# Altium schematic symbol library eth_bridge_v2.SCHLIB: 17 symbols
Pins are listed as number, name and electrical type; pins without a type are passive.

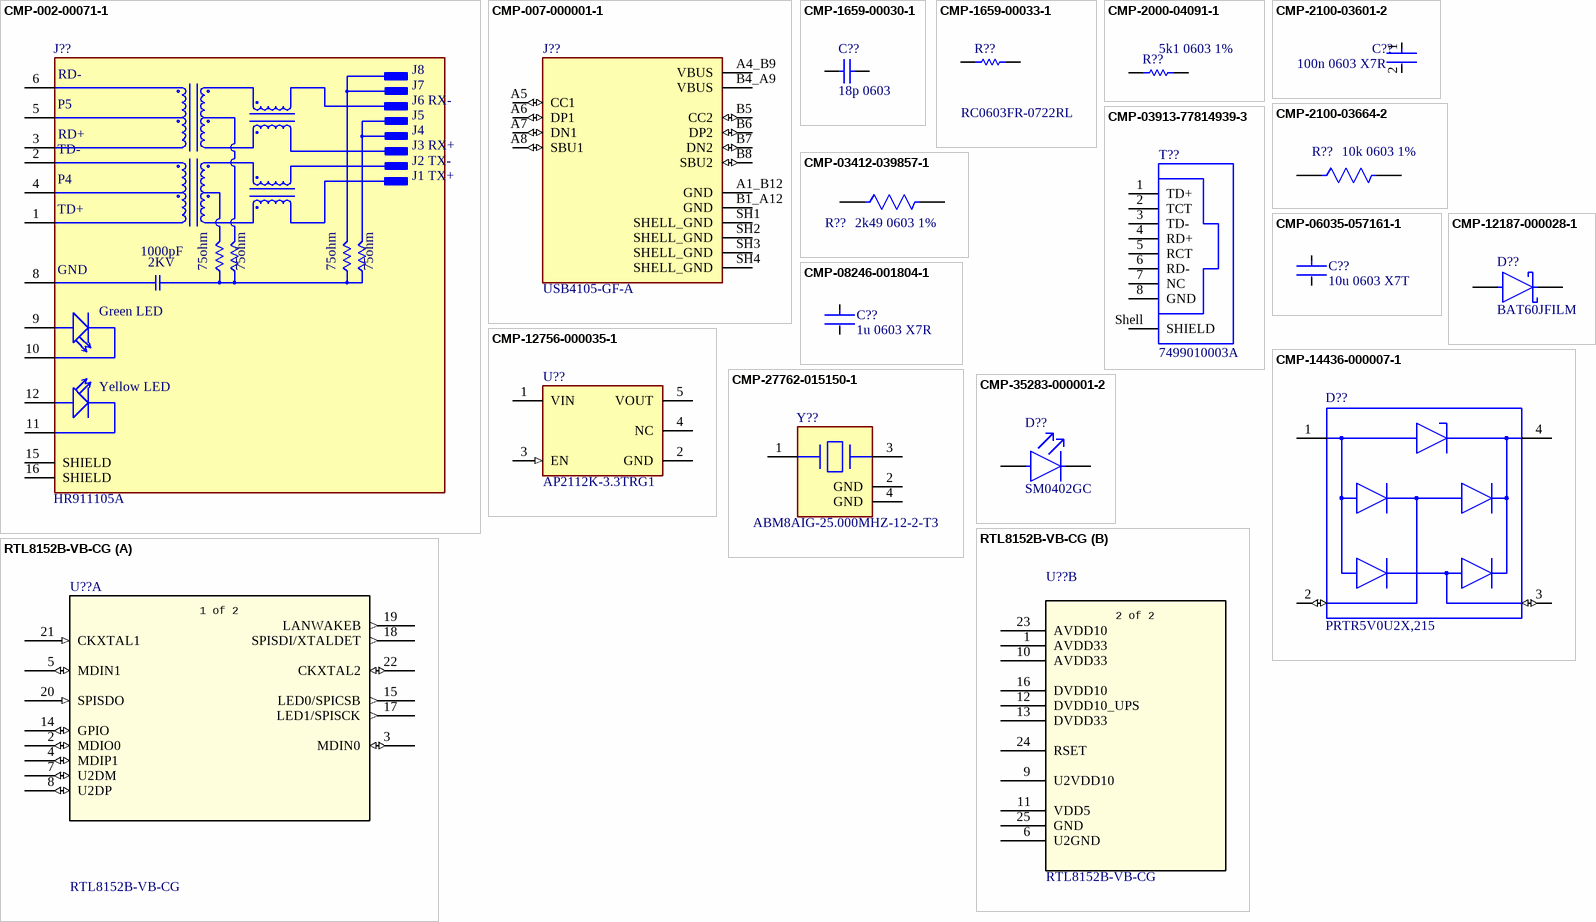
[diagram p0: symbols CMP-002-00071-1 to RTL8152B-VB-CG]

## CMP-002-00071-1
designator J??, comment HR911105A
DIP RJ45 Connector;; MF: hanrun; SnapEDA_Link: https://www.snapeda.com/parts/HR911105A/HanRun/view-part/?ref=snap; Case/Package: None; Component Type: Standard; Value: *; Source: HR911105A.SchLib; Pins: 13; MP: HR911105A; Availability: Not in stock; Price: None; Check_prices: https://www.snapeda.com/parts/HR911105A/HanRun/view-part/?ref=eda; Design Item ID: HR911105A; Component Type: Connectors
footprint HANRUN_HR911105A
footprint HANRUN_HR911105A
pins: 1 TD+, 2 TD-, 3 RD+, 4 P4, 5 P5, 6 RD-, 8 GND (power), 9 GA, 10 GC, 11 YC, 12 YA, 15 SHIELD, 16 SHIELD
text: J8; J7; J6 RX-; J5; J4; J3 RX+; J2 TX-; J1 TX+; 1000pF; 2KV; 75ohm; Green LED; Yellow LED

## CMP-007-000001-1
designator J??, comment USB4105-GF-A
USB-C; MF: {'manufacturer': u'GCT'}; Pin Count: 16; Availability: Unavailable; MP: USB4105-GF-A; Design Item ID: USB4105-GF-A; Value: *; Package: None; Price: None; Component Type: Standard; Source: USB4105-GF-A.SchLib; Supplier 1: Future Electronics; Supplier Part Number 1: USB4105-GF-A
footprint GCT_USB4105-GF-A
footprint GCT_USB4105-GF-A
footprint GCT_USB4105-GF-A
pins: A1_B12 GND (power), A4_B9 VBUS (power), A5 CC1 (io), A6 DP1 (io), A7 DN1 (io), A8 SBU1 (io), B1_A12 GND (power), B4_A9 VBUS (power), B5 CC2 (io), B6 DP2 (io), B7 DN2 (io), B8 SBU2 (io), SH1 SHELL_GND (power), SH2 SHELL_GND (power), SH3 SHELL_GND (power), SH4 SHELL_GND (power)

## CMP-1659-00030-1
designator C??, comment 18p 0603
Chip Capacitor, 18 pF, +/- 5%, 50 V, -55 to 125 degC, 0603 (1608 Metric), RoHS, Tape and Reel; Voltage Rating: 50 V; Case\Package: 0603; Power Rating: 100 mW; Resistance: 68.1 Ohm; Tolerance: 1%; Case Code (Metric): 1608; Max Operating Temperature: 155 degC; RoHSCompliant: true; Case Code (Imperial): 0603; ComponentLink2Description: Datasheet; Package Quantity: 200; PackageReference: 0603; ComponentLink2URL: http://www.yageo.com/NewPortal/yageodocoutput?fileName=/pdf/MLCC/UPY-GP_NP0_16V-to-50V_14.pdf; Length: 1.6 mm; DatasheetVersion: Rev. 14, 07/2016; Min Operating Temperature: -55 degC; ComponentLink1URL: http://www.yageo.com/; Width: 0.8 mm; ComponentLink1Description: Manufacturer URL; Height: 0.45 mm; Radiation Hardening: No; PackageDescription: 2-Pin Surface Mount Device, Body 1.6 x 0.8 mm; Packaging: Tape and Reel
footprint CAPC1608X90X40LL10T20 (Chip Capacitor, 2-Leads, Body 1.7x0.9mm, IPC High Density)
footprint CAPC1608X90X40NL10T20 (Chip Capacitor, 2-Leads, Body 1.7x0.9mm, IPC Medium Density)
footprint CAPC1608X90X40ML10T20 (Chip Capacitor, 2-Leads, Body 1.7x0.9mm, IPC Low Density)
pins: 1, 2

## CMP-1659-00033-1
designator R??, comment RC0603FR-0722RL
Chip Resistor, 22 Ohm, +/- 1%, 0.1 W, -55 to 155 degC, 0603 (1608 Metric), RoHS, Tape and Reel; Max Ouput Current: 8 A; Case\Package: SIP; Max Input Voltage: 1.4 V; ComponentLink2URL: http://www.yageo.com/documents/recent/PYu-RC_Group_51_RoHS_L_04.pdf; RoHSCompliant: true; Max Operating Temperature: 100 degC; PackageDescription: 2-Pin Surface Mount Device, Body 1.6 x 0.8 mm; ComponentLink1Description: Manufacturer URL; ComponentLink1URL: http://www.yageo.com/; Length: 18.5 mm; REACH SVHC: Unknown; Pins: 4; DatasheetVersion: Rev. 4, 02/2016; PackageReference: 0603; Output Current: 8 A; Min Operating Temperature: -25 degC; Height: 19.6 mm; Mount: Through Hole; Radiation Hardening: No; ComponentLink2Description: Datasheet; Package Quantity: 200; Packaging: Rail/Tube
footprint RESC1608X55X25NL10T15 (Chip Resistor, 2-Leads, Body 1.70x0.90mm, IPC Medium Density)
footprint RESC1608X55X25ML10T15 (Chip Resistor, 2-Leads, Body 1.70x0.90mm, IPC Low Density)
footprint RESC1608X55X25LL10T15 (Chip Resistor, 2-Leads, Body 1.70x0.90mm, IPC High Density)
pins: 1, 2

## CMP-2000-04091-1
designator R??, comment 5k1 0603 1%
Manufacturer: Yageo; Part Number: RC0603FR-075K1L
footprint RESC1608X55X25ML10T15 (Chip Resistor, 2-Leads, Body 1.60x0.80mm, IPC Low Density)
footprint RESC1608X55X25LL10T15 (Chip Resistor, 2-Leads, Body 1.60x0.80mm, IPC High Density)
footprint RESC1608X55X25NL10T15 (Chip Resistor, 2-Leads, Body 1.60x0.80mm, IPC Medium Density)
pins: 1, 2
1 alternate drawing of the same symbol

## CMP-2100-03601-2
designator C??, comment 100n 0603 X7R
CAP CER 0.1UF 50V X7R 0603; Manufacturer: YAGEO; Manufacturer Part Number: CC0603KRX7R9BB104; Material: Ceramic; Capacitance: 100 nF; Temperature Coefficient: 15%; Tolerance: 0.1; Value: 100 nF; Height: 0.9mm; Voltage: 50 V; ComponentLink2Description: Datasheet; Device Class L2: Capacitors; Temperature Range High: +125°C; Category: Cap; Footprint Url: http://www.yageo.com/exep/pages/download/literatures/UPY-C_GEN_24.pdf; ComponentLink2URL: http://www.yageo.com/documents/recent/UPY-GPHC_X7R_6.3V-to-50V_18.pdf; Package: CC0603-DA; Temperature: -55°C to +125°C; Voltage Rating: 50 V; Temperature Characteristic: X7R; Device Class L1: Passive Components; Temperature Range Low: -55°C; RoHS: TRUE; Automotive: No; Device Class L3: Ceramic Capacitors; Octopart: https://octopart.com/cc0603krx7r9bb104-yageo-42244635; Mouser Description: Multilayer Ceramic Capacitor, CC Series, 0.1 - F, - 10%, X7R, 50 V, 0603 [1608 Metric]; Lead Free: Yes; Digikey Description: CAP CER 0.1UF 50V X7R 0603
footprint FP-CC0603-DA-MFG
footprint FP-CC0603-DA-IPC_C
footprint FP-CC0603-DA-IPC_B
footprint FP-CC0603-DA-IPC_A
pins: 1, 2

## CMP-2100-03664-2
designator R??, comment 10k 0603 1%
RES 10K OHM 1% 1/10W 0603; Voltage Rating: 75V; Voltage Rating (DC): 50V; Resistance: 10kR; Power Rating: 100mW; Temperature Coefficient: 100ppm/°C; Depth: 0.8mm; Termination: SMD/SMT; Resistor Type: Thick Film; Series: RC; Construction: Rectangular; Features: Moisture Resistant; Packaging: Tape and Reel; Min Operating Temperature: -55°C; Number of Terminations: 2; Lead Pitch: 0.3mm; RoHS Compliant: Yes; Case/Package: 0603; Resistance Tolerance: 1%; Military Standard: Not; Weight: 7.1E-05oz; Number of Pins: 2; Tolerance: 1%; Length: 1.6mm; Case Code (Imperial): 0603; Lead Free: Lead Free; Width: 0.8mm; Max Power Dissipation: 100mW; Height: 0.45mm; Max Operating Temperature: 155°C; Case Code (Metric): 1608; Size Code: 0603
footprint FP-RC0603-0_55-IPC_C
footprint FP-RC0603-0_55-IPC_B
footprint FP-RC0603-0_55-MFG
footprint FP-RC0603-0_55-IPC_A
pins: 1, 2

## CMP-03412-039857-1
designator R??, comment 2k49 0603 1%
Anti-Sulfurated Chip Resistors Automotive Grade 2.49kΩ 1% 100ppm/°C 0603; Max Power Dissipation: 100mW; Resistance: 2.49kR; Packaging: Tape and Reel; Case/Package: 0603; Height: 0.022inch; Features: Moisture Resistant; Number of Terminations: 2; Length: 0.063inch; Tolerance: 1%; Resistor Type: Thick Film; Width: 0.031inch; Max Operating Temperature: 155°C; Temperature Coefficient: 100ppm/°C; Min Operating Temperature: -55°C; Series: AF; RoHS Compliant: Yes
footprint FP-AF0603-IPC_A
footprint FP-AF0603-IPC_C
footprint FP-AF0603-MFG
footprint FP-AF0603-IPC_B
pins: 1, 2

## CMP-03913-77814939-3
designator T??, comment 7499010003A
Wurth Elektronik Network transformer, PCBinstall, 1output, -1dBinsertion_loss; Manufacturer Lifecycle Status: ACTIVE; YEOL: 1 = Estimated lifetime > 10 years; Inductance: 350µH; Insertion Loss (dB): -1dB; Height: 14mm; Lifecycle Status: Production; Width: 16mm; Contact Plating: Gold; Length: 22mm; Max Operating Temperature: 85°C; RoHS: Compliant; Min Operating Temperature: -40°C
footprint 7499010003A
pins: 1 TD+, 2 TCT, 3 TD-, 4 RD+, 5 RCT, 6 RD-, 7 NC, 8 GND, Shell SHIELD

## CMP-06035-057161-1
designator C??, comment 10u 0603 X7T
10uF 10V X7T 0603 20%; Voltage Rating: 10V; Weight: 0.000222oz; Mount: Surface Mount; Thickness: 0.039inch; Max Operating Temperature: 125°C; Width: 0.031inch; Capacitance: 10uF; Packaging: Tape and Reel; Case/Package: 0603; Min Operating Temperature: -55°C; Dielectric: X7T; Voltage Rating (DC): 10V; Tolerance: 20%; Length: 0.063inch; Package Quantity: 10000; Supplier 1: DigiKey; Supplier Part Number 1: 490-GRM188D71A106KA73JDKR-ND
footprint FP-GRM188-0_2-IPC_C
footprint FP-GRM188-0_2-MFG
footprint FP-GRM188-0_2-IPC_B
footprint FP-GRM188-0_2-IPC_A
pins: 1, 2

## CMP-08246-001804-1
designator C??, comment 1u 0603 X7R
Cap Ceramic 1uF 16V X7R 20% Pad SMD 0603 +125°C Automotive T/R; Min Operating Temperature: -55°C; Lead Free: Lead Free; Voltage Rating: 16V; Voltage Rating (DC): 16V; Tolerance: 20%; Mount: Surface Mount; Dielectric: X7R; Case Code (Imperial): 0603; Max Operating Temperature: 125°C; Packaging: Tape and Reel; Termination: SMD/SMT; Weight: 7.1E-05oz; Package Quantity: 4000; Ratings: AEC-Q200; Thickness: 0.035inch; Case Code (Metric): 1608; Height: 0.8mm; Case/Package: 0603; Length: 0.063inch; Width: 0.031inch; Capacitance: 1uF
footprint FP-CGA3E-0_3-0_1-IPC_B
footprint FP-CGA3E-0_3-0_1-IPC_A
footprint FP-CGA3E-0_3-0_1-MFG
footprint FP-CGA3E-0_3-0_1-IPC_C
pins: 1, 2

## CMP-12187-000028-1
designator D??, comment BAT60JFILM
SCHOTTKY 10V 3A SOD323; Max Forward Surge Current (Ifsm): 5A; Forward Voltage: 580mV; Max Reverse Leakage Current: 7.5uA; Element Configuration: Single; Polarity: Standard; Output Current: 3A; Contact Plating: Tin; Package Quantity: 1; Mount: Surface Mount; Min Operating Temperature: -65°C; Average Rectified Current: 3A; Packaging: Tape and Reel; Forward Current: 3A; Height: 1.07mm; Length: 1.8mm; REACH SVHC: No SVHC; Peak Non-Repetitive Surge Current: 5A; Max Surge Current: 5A; Width: 1.45mm; Current Rating: 3A; Lead Free: Lead Free; Radiation Hardening: No; Max Reverse Voltage (DC): 10V; Peak Reverse Current: 7.5uA; Voltage Rating (DC): 10V; Max Operating Temperature: 150°C; Max Repetitive Reverse Voltage (Vrrm): 10V; Number of Pins: 2; Weight: 0.01lb; Supplier 1: Future Electronics; Supplier Part Number 1: BAT60JFILM
footprint FP-BAT60JFILM-MFG
footprint FP-BAT60JFILM-IPC_C
footprint FP-BAT60JFILM-IPC_B
footprint FP-BAT60JFILM-IPC_A
pins: 1 K, 2 A

## CMP-12756-000035-1
designator U??, comment AP2112K-3.3TRG1
LDO 3.3V 600MA SOT25; Number of Regulators: 1; Output Type: Fixed; Polarity: Positive; Min Input Voltage: 2.5V; Max Input Voltage: 6V; Accuracy: 1.5%; Quiescent Current: 55uA; Dropout Voltage: 250mV; Min Operating Temperature: -40°C; Length: 3.1mm; Output Current: 600mA; Max Operating Temperature: 85°C; Package Quantity: 1; Output Voltage: 3.3V; Width: 1.7mm; Number of Outputs: 1; Packaging: Tape and Reel; Height: 1.3mm; Lead Free: Lead Free; Max Output Current: 600mA; Case/Package: SOT-23-5; Mount: Surface Mount; Number of Pins: 5; Supplier 1: Avnet; Supplier Part Number 1: AP2112K-3.3TRG1
footprint FP-SOT25-IPC_A
footprint FP-SOT25-MFG
footprint FP-SOT25-IPC_C
footprint FP-SOT25-IPC_B
pins: 1 VIN (power), 2 GND (power), 3 EN (in), 4 NC, 5 VOUT (power)

## CMP-14436-000007-1
designator D??, comment PRTR5V0U2X,215
TVS DIODE 5.5V SOT143B
footprint FP-SOT143B-MFG
pins: 1 GND (power), 2 I/O 1 (io), 3 I/O 2 (io), 4 VCC (power)

## CMP-27762-015150-1
designator Y??, comment ABM8AIG-25.000MHZ-12-2-T3
Crystal 25MHz ±20ppm (Tol) ±100ppm (Stability) 12pF FUND 50Ω Automotive 4-Pin Ultra Mini-CSMD T/R; ESR (Equivalent Series Resistance): 50R; RoHS Compliant: Yes; Frequency Stability: 100ppm; Min Operating Temperature: -40°C; Frequency Tolerance: 20ppm; Case/Package: SMD/SMT; Packaging: Tape and Reel; Ratings: AEC-Q200; Series: ABM8AIG; Mount: Surface Mount; Load Capacitance: 12pF; Height: 0.031inch; Length: 0.126inch; Frequency: 25MHz; Width: 0.098inch; Max Operating Temperature: 125°C
footprint FP-ABM8AIG-MFG
pins: 1, 2 GND (power), 3, 4 GND (power)

## CMP-35283-000001-2
designator D??, comment SM0402GC
LED 0402 SMD; Lens Size: 1mm; Luminous Intensity: 28.5mcd; Viewing Angle: 130°; Forward Voltage: 1.9V; Test Current: 20mA; Lens Color: Colorless; Lens Style: Flat; Dominant Wavelength: 572nm; Lens Transparency: Clear; Color: Green; Case Code (Metric): 1005; Mount: Surface Mount; Case Code (Imperial): 0402; Length: 1mm; Width: 0.5mm; Case/Package: 0402; Height: 0.71mm; Packaging: Tape and Reel; Supplier 1: DigiKey; Supplier Part Number 1: 492-2205-1-ND
footprint FP-SM0402GC-MFG
pins: 1 A, 2 C

## RTL8152B-VB-CG
designator U??
Description; Manufacturer_Name: Realtek; Copyright: Copyright (C) 2026 Ultra Librarian. All rights reserved.; Manufacturer_Part_Number: RTL8152B-VB-CG; RefDes: RefDes; Type: Type
footprint RTL8152B-VB-CG_RTK
part A pins: 2 MDIO0 (io), 3 MDIN0 (io), 4 MDIP1 (io), 5 MDIN1 (io), 7 U2DM (io), 8 U2DP (io), 14 GPIO (io), 15 LED0/SPICSB (out), 17 LED1/SPISCK (out), 18 SPISDI/XTALDET (out), 19 LANWAKEB (out), 20 SPISDO (in), 21 CKXTAL1 (in), 22 CKXTAL2 (io)
part B pins: 1 AVDD33 (power), 6 U2GND (power), 9 U2VDD10 (power), 10 AVDD33 (power), 11 VDD5 (power), 12 DVDD10_UPS (power), 13 DVDD33 (power), 16 DVDD10 (power), 23 AVDD10 (power), 24 RSET (power), 25 GND (power)
part A text: 1 of 2
part B text: 2 of 2